# EAGLE library part ICL7660 (library mylib)
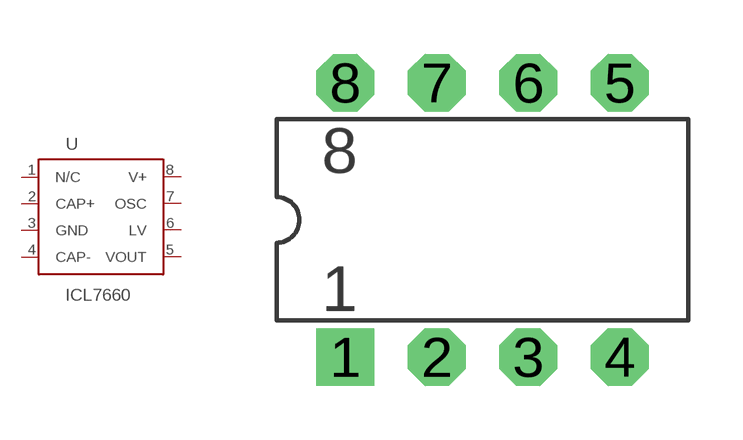
[diagram p4: symbol with the pads of DIL08; footprint DIL08]

Designator prefix -

## ICL7660  [DIL08]
1  N/C
2  CAP+
3  GND
4  CAP-
5  VOUT
6  LV
7  OSC
8  V+

## Footprint DIL08 (pad centres in mm)
drill 0.813 pad 1.6 square: 1 -3.81,-3.81
drill 0.813 pad 1.6 octagon: 2 -1.27,-3.81; 3 1.27,-3.81; 4 3.81,-3.81; 5 3.81,3.81; 6 1.27,3.81; 7 -1.27,3.81; 8 -3.81,3.81